# Altium footprint library lib.PcbLib: 64 footprints (part 1 of 4)
Each footprint in its own frame and in the unit in brackets; x right, y up, seen from the top. Pads: shape width x height; smd on the part's side, far side on the other; paste and mask are expansions set on the pad; w line width, h text height; cw(c..) or ccw(c..) is an arc to the next point about the centre after c.
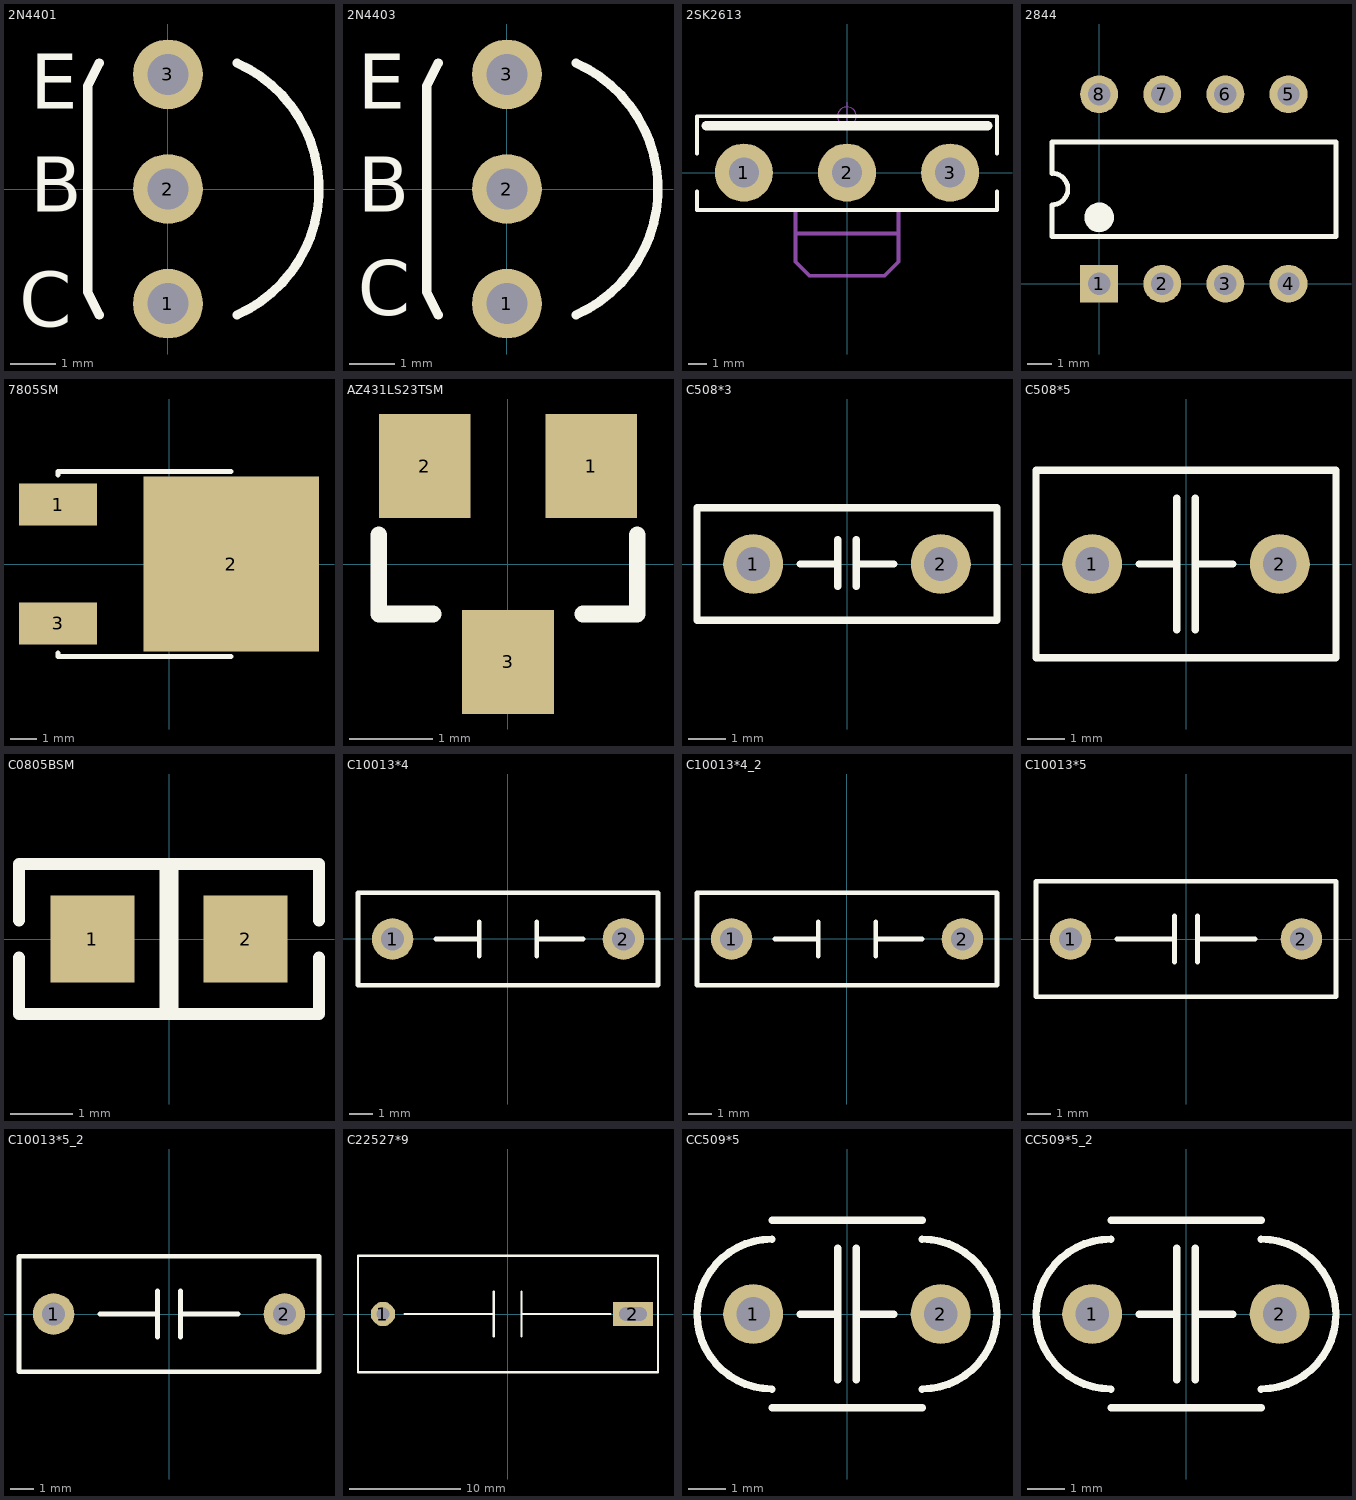
[diagram p0: the footprints below, top view; thin cyan lines are the x and y axes]

## 2N4401 [mil]
height 1107.87
pads (3):
  round 60 hole 35.43: 1(0,-98.42) 2(0,0) 3(0,98.43)
Top Overlay:
  lines w7.87: -59.06,-108.27 -68.9,-88.58 -68.9,88.58 -59.06,108.27 ; 59.15,-108.23 ccw(c11.42,0) 59.15,108.23
  text "B" at -118.11,-19.68 h47.24
  text "E" at -118.11,68.9 h47.24
  text "C" at -127.95,-118.11 h47.24
Bottom Overlay:
  text "B" at -114.17,-7.87 h47.24
  text "C" at -108.27,-108.27 h47.24
  text "E" at -108.27,78.74 h47.24
3D body: height 308.27, standoff 0, extent -68.9,-108.27 127.95,110.24

## 2N4403 [mil]
height 1107.87
pads (3):
  round 60 hole 35.43: 1(0,-98.42) 2(0,0) 3(0,98.43)
Top Overlay:
  lines w7.87: -59.06,-108.27 -68.9,-88.58 -68.9,88.58 -59.06,108.27 ; 59.15,-108.23 ccw(c11.42,0) 59.15,108.23
  text "B" at -127.95,-19.68 h47.24
  text "E" at -127.95,68.9 h47.24
  text "C" at -127.95,-108.27 h47.24
Bottom Overlay:
  text "B" at -108.27,-9.84 h47.24
  text "C" at -108.27,-108.27 h47.24
  text "E" at -108.27,78.74 h47.24
3D body: height 308.27, standoff 0, extent -68.9,-108.27 127.95,110.24

## 2SK2613 [mm]
height 28.14
pads (3):
  round 3.1 hole 1.6: 1(-5.5,0) 2(0,0) 3(5.5,0)
Top Overlay:
  lines w0.2: -8,-1 -8,-2 8,-2 8,-1 ; -8,1 -8,2.5 -8,3 8,3 8,1
  lines w0.5: -7.5,2.5 7.5,2.5
Mechanical 9:
  circle w0.02: c0,3 r0.5
  lines w0.02: -0.75,3 0.75,3 ; 0,2.25 0,3.75
  lines w0.2: -2.75,-3.25 2.75,-3.25 ; -2.75,-2 -2.75,-4.75 -2,-5.5 2,-5.5 2.75,-4.75 2.75,-2
  text "NUT+INSB" at -2,-5 h1.2
3D body: height 38.68, standoff 0, extent -8.1,-2.1 8.1,3.1

## 2844 [mil]
height 200
pads (8):
  rect 60x60 hole 35.43: 1(0,0)
  round 60 hole 35.43: 2(100,0) 3(200,0) 4(300,0) 5(300,300) 6(200,300) 7(100,300) 8(0,300)
Top Overlay:
  circle w24.8: c0,105.12 r11.02
  lines w7.87: -74.8,174.8 -74.8,224.8 375.2,224.8 375.2,74.8 -74.8,74.8 -74.8,124.8 ccw(c-74.8,150) -74.8,175.2
3D body: height 200, standoff 0, extent -78.74,-34 379.13,334

## 7805SM [mm]
pads (3):
  rect 3x1.62 smd: 1(-4.265,2.285) 3(-4.265,-2.285)
  rect 6.75x6.71 smd: 2(2.39,0)
Top Overlay:
  lines w0.2: -4.265,-3.425 -4.265,-3.555 2.385,-3.555 ; -4.265,3.425 -4.265,3.555 2.385,3.555
Mechanical 9:
  lines w0.01: -0.057,0 0,0 ; 0,-0.056 0,0 ; 0,0.051 0,0 ; 0.062,0 0,0

## AZ431LS23TSM [mm]
pads (3):
  rect 1.1x1.25 smd: 1(1,1.175) 2(-1,1.175) 3(0,-1.175)
Top Overlay:
  lines w0.2: -1.55,0.35 -1.55,-0.6 -0.9,-0.6 ; 0.9,-0.6 1.55,-0.6 1.55,0.35
3D body: height 1.12, standoff 0, extent -1.55,-0.65 1.55,0.55

## C508*3 [mm]
pads (2):
  round 1.6 hole 0.9: 1(-2.5,0) 2(2.5,0)
Top Overlay:
  lines w0.2: -1.25,0 -0.25,0 ; -0.25,-0.6 -0.25,0.65 ; 0.25,-0.6 0.25,0.65 ; 0.25,0 1.25,0 ; -4,-1.5 4,-1.5 4,1.5 -4,1.5 -4,-1.5
3D body: height 9, standoff 0, extent -4,-1.5 4,1.5

## C508*5 [mm]
pads (2):
  round 1.6 hole 0.9: 1(-2.5,0) 2(2.5,0)
Top Overlay:
  lines w0.2: -1.25,0 -0.25,0 ; -0.25,-1.75 -0.25,1.75 ; 0.25,-1.75 0.25,1.75 ; 0.25,0 1.25,0 ; -4,-2.5 -4,2.5 4,2.5 4,-2.5 -4,-2.5
3D body: height 9, standoff 0, extent -4,-2.5 4,2.5

## C0805BSM [mm]
height 1.27
pads (2):
  rect 1.35x1.4 smd: 1(-1.225,0) 2(1.225,0)
Top Layer:
  lines w0.254: 0,-0.7 0,0.7
Top Overlay:
  region: -0.15,-1.2 0.15,-1.2 0.15,1.2 -0.15,1.2
  lines w0.2: -2.4,-0.3 -2.4,-1.2 0,-1.2 2.4,-1.2 2.4,-0.3 ; -2.4,0.3 -2.4,1.2 0,1.2 2.4,1.2 2.4,0.3
3D body: height 1.27, standoff 0, extent -2.002,-0.827 2.002,0.827

## C10013*4 [mm]
height 28.14
pads (2):
  round 1.8 hole 1: 1(-5,0) 2(5,0)
Top Overlay:
  lines w0.2: -3.125,0 -1.25,0 ; -1.25,-0.75 -1.25,0.75 ; 1.25,-0.75 1.25,0.75 ; 1.25,0 3.25,0 ; -6.5,-2 6.5,-2 6.5,2 -6.5,2 -6.5,-2
3D body: height 9, standoff 0, extent -6.6,-2.1 6.6,2.1

## C10013*4_2 [mm]
pads (2):
  round 1.8 hole 1: 1(-5,0) 2(5,0)
Top Overlay:
  lines w0.2: -3.125,0 -1.25,0 ; -1.25,-0.75 -1.25,0.75 ; 1.25,-0.75 1.25,0.75 ; 1.25,0 3.25,0 ; -6.5,-2 6.5,-2 6.5,2 -6.5,2 -6.5,-2
3D body: height 9, standoff 0, extent -6.6,-2.1 6.6,2.1

## C10013*5 [mm]
height 28.14
pads (2):
  round 1.8 hole 1: 1(-5,0) 2(5,0)
Top Overlay:
  lines w0.2: -3,0 -0.5,0 ; -0.5,-1 -0.5,1 ; 0.5,-1 0.5,1 ; 0.5,0 3,0 ; -6.5,-2.5 6.5,-2.5 6.5,2.5 -6.5,2.5 -6.5,-2.5
3D body: height 33.5, standoff 0, extent -6.6,-2.6 6.6,2.6

## C10013*5_2 [mm]
pads (2):
  round 1.8 hole 1: 1(-5,0) 2(5,0)
Top Overlay:
  lines w0.2: -3,0 -0.5,0 ; -0.5,-1 -0.5,1 ; 0.5,-1 0.5,1 ; 0.5,0 3,0 ; -6.5,-2.5 -6.5,2.5 6.5,2.5 6.5,-2.5 -6.5,-2.5
3D body: height 33.5, standoff 0, extent -6.6,-2.6 6.6,2.6

## C22527*9 [mm]
height 28.14
pads (2):
  round 2.2 hole 1.2: 1(-11.25,0)
  rect 3.56x2.2 hole 1.2 slot 2.5 at 0 deg: 2(11.25,0)
Top Overlay:
  lines w0.2: -9.29,0 -3.29,0 -2.29,0 -1.29,0 ; -1.29,-2 -1.29,2 ; 1.21,-2 1.21,2 ; 1.21,0 2.21,0 9.21,0 ; -13.5,-5.25 13.5,-5.25 13.5,5.25 -13.5,5.25 -13.5,-5.25
3D body: height 15, standoff 0, extent -13.5,-5.25 13.5,5.25

## CC509*5 [mm]
height 28.14
pads (2):
  round 1.6 hole 0.9: 1(-2.5,0) 2(2.5,0)
Top Overlay:
  lines w0.2: -2,-2.5 2,-2.5 ; -2,-2 cw(c-2,0) -2,2 ; -2,2.5 2,2.5 ; -1.25,0 -0.25,0 ; -0.25,-1.75 -0.25,1.75 ; 0.25,-1.75 0.25,1.75 ; 0.25,0 1.25,0 ; 2,-2 ccw(c2,0) 2,2
3D body: height 9, standoff 0, extent 2.302,-2.472 4.512,2.528
3D body: height 9, standoff 0, extent -4.45,-2.451 -2.27,2.549
3D body: height 9, standoff 0, extent -2.4,-2.5 2.4,2.5

## CC509*5_2 [mm]
pads (2):
  round 1.6 hole 0.9: 1(-2.5,0) 2(2.5,0)
Top Overlay:
  lines w0.2: -2,-2.5 2,-2.5 ; -2,-2 cw(c-2,0) -2,2 ; -2,2.5 2,2.5 ; -1.25,0 -0.25,0 ; -0.25,-1.75 -0.25,1.75 ; 0.25,-1.75 0.25,1.75 ; 0.25,0 1.25,0 ; 2,-2 ccw(c2,0) 2,2
3D body: height 9, standoff 0, extent 2.302,-2.472 4.512,2.528
3D body: height 9, standoff 0, extent -4.45,-2.451 -2.27,2.549
3D body: height 9, standoff 0, extent -2.4,-2.5 2.4,2.5